# Altium footprint library Footprints.PcbLib: 19 footprints (part 2 of 2)
Each footprint in its own frame and in the unit in brackets; x right, y up, seen from the top. Pads: shape width x height; smd on the part's side, far side on the other; paste and mask are expansions set on the pad; w line width, h text height; cw(c..) or ccw(c..) is an arc to the next point about the centre after c.
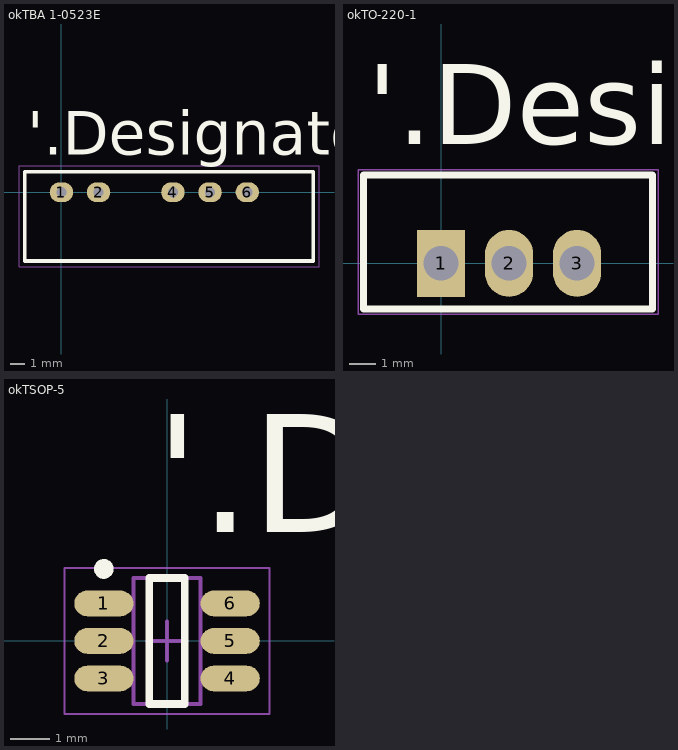
[diagram p1: the footprints below, top view; thin cyan lines are the x and y axes]

## okTBA 1-0523E [mm]
pads (5):
  oval 1.6x1.35 hole 0.7: 1(0,0) 2(2.54,0) 4(7.62,0) 5(10.16,0) 6(12.7,0)
Top Overlay:
  lines w0.254: -2.5,-4.7 17.2,-4.7 17.2,1.4 -2.5,1.4 -2.5,-4.7
  text "'.Designator'" at -2.35,2.549 h3
Mechanical 15:
  lines w0.05: -2.9,-5.1 17.6,-5.1 17.6,1.8 -2.9,1.8 -2.9,-5.1
3D body "tba1e_dual_3d_drawing.stp": height 10, standoff -3.05, extent -2.4,-4.65 17.1,1.35

## okTO-220-1 [mm] "TO-220-1"
pads (3):
  rect 1.8x2.5 hole 1.3: 1(0,0)
  oval 1.8x2.5 hole 1.3: 2(2.54,0) 3(5.08,0)
Top Overlay:
  lines w0.254: -2.9,-1.7 7.9,-1.7 7.9,3.3 -2.9,3.3 -2.9,-1.7
  text "'.Designator'" at -2.75,4.45 h3
Mechanical 15:
  lines w0.05: -3.1,-1.9 -3.1,3.5 8.1,3.5 8.1,-1.9 -3.1,-1.9
3D body "81618.stp": height 22.66, standoff -8.33, extent -2.835,-1.605 7.835,3.225

## okTSOP-5 [mm] "TSOP, 6-Leads, Body 3.00x1.50mm, Pitch 0.95mm, IPC Medium Density"
height 1.1
pads (6):
  oval 1.5x0.65 smd: 1(-1.6,0.95) 2(-1.6,0) 3(-1.6,-0.95) 4(1.6,-0.95) 5(1.6,0) 6(1.6,0.95)
Top Overlay:
  circle w0.25: c-1.6,1.825 r0.125
  lines w0.2: -0.45,-1.6 0.45,-1.6 0.45,1.6 -0.45,1.6 -0.45,-1.6
  text "'.Designator'" at -0.3,2.75 h3
Mechanical 13:
  lines w0.1: -0.85,-1.6 0.85,-1.6 0.85,1.6 -0.85,1.6 -0.85,-1.6
Mechanical 15:
  lines w0.05: -2.6,-1.85 2.6,-1.85 2.6,1.85 -2.6,1.85 -2.6,-1.85
  lines w0.1: -0.5,0 0.5,0 ; 0,-0.5 0,0.5
3D body "TSOP-5.step": height 1.1, standoff 0, extent -1.375,-1.6 1.375,1.6